# Altium footprint library Epic_Library.PcbLib: 1 footprints
Each footprint in its own frame and in the unit in brackets; x right, y up, seen from the top. Pads: shape width x height; smd on the part's side, far side on the other; paste and mask are expansions set on the pad; w line width, h text height; cw(c..) or ccw(c..) is an arc to the next point about the centre after c.
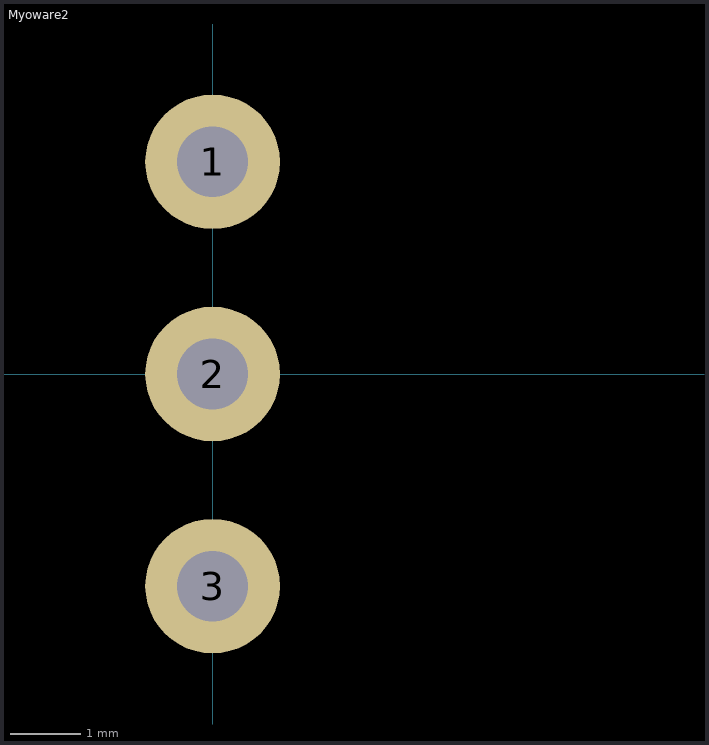
[diagram p0: the footprint, top view; thin cyan lines are the x and y axes]

## Myoware2 [mm]
pads (3):
  round 1.905 hole 1: 1(0,3) 2(0,0) 3(0,-3)
F.SilkS:
  lines w0.254: -1.5,-4.5 5.5,-4.5 5.5,4.5 -1.5,4.5 -1.5,-4.5
  text "GND" at 1.9,-4.1 h1
  text "OUT" at 1.9,-1.1 h1
  text "VCC" at 1.9,1.9 h1
F.Fab:
  text "'.Designator'" at -13.547,-1.34 h1
3D body "102010428.step": height 4.41, standoff 0, extent -19.501,-8.623 2.499,8.877